# EAGLE library part MCP23017* (library IC_Interface)
16-Bit I/O Expander with Serial Interface Datasheet <https://ww1.microchip.com/downloads/en/devicedoc/20001952c.pdf>
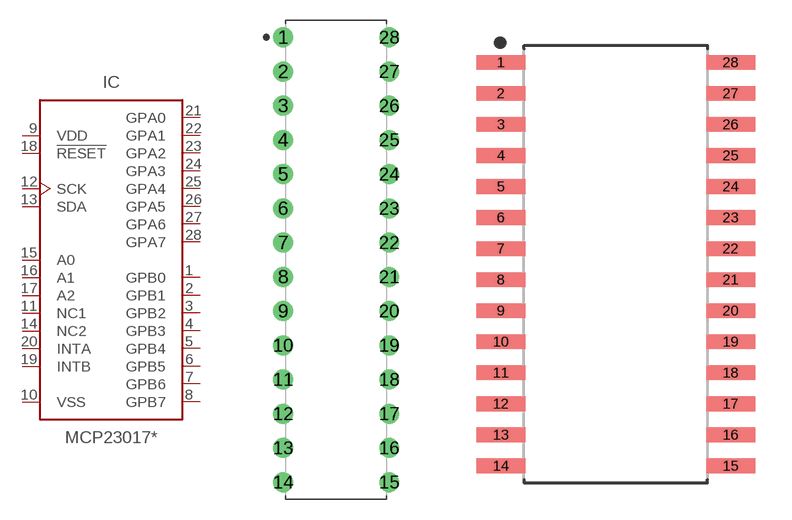
[diagram p17: symbol with the pads of DIP787W56P254L3486H508Q28B; footprints DIP787W56P254L3486H508Q28B, SOIC127P1030X265-28]

Designator prefix IC

## MCP23017-E/SP-SPDIP (CATEGORY: IC_Interface; DESCRIPTION: I/O Expander 16 I²C 1.7MHz; MANUFACTURER: Microchip Technology; MPN: MCP23017-E/SP; OPERATING_TEMP: -40°C to 125°C; PART_STATUS: Active; ROHS_COMPLIANT: ROHS3 Compliant; SUB-CATEGORY: I/O Expander; TYPE: 16 bit; VALUE: MCP23017)  [DIP787W56P254L3486H508Q28B]
1  GPB0
2  GPB1
3  GPB2
4  GPB3
5  GPB4
6  GPB5
7  GPB6
8  GPB7
9  VDD  pwr
10  VSS  pwr
11  NC1  nc
12  SCK  in
13  SDA
14  NC2  nc
15  A0  in
16  A1  in
17  A2  in
18  !RESET  in
19  INTB  out
20  INTA  out
21  GPA0
22  GPA1
23  GPA2
24  GPA3
25  GPA4
26  GPA5
27  GPA6
28  GPA7

## MCP23017-E/SO-SOIC (CATEGORY: IC_Interface; DESCRIPTION: I/O Expander 16 I²C 1.7MHz; MANUFACTURER: Microchip Technology; MPN: MCP23017-E/SO; OPERATING_TEMP: -40°C to 125°C; PART_STATUS: Active; ROHS_COMPLIANT: ROHS3 Compliant; SUB-CATEGORY: I/O Expander; TYPE: 16 bit; VALUE: MCP23017)  [SOIC127P1030X265-28]
Pads as for DIP787W56P254L3486H508Q28B

## Footprint DIP787W56P254L3486H508Q28B (pad centres in mm)
28-DIP, 2.54 mm (0.10 in) pitch, 7.87 mm (0.31 in) span, 34.86 X 6.80 X 5.08 mm body 28-pin DIP package with 2.54 mm (0.10 in) pitch, 7.87 mm (0.31 in) span with body size 34.86 X 6.80 X 5.08 mm
drill 0.877 pad 1.477: 1 -3.935,16.51; 2 -3.935,13.97; 3 -3.935,11.43; 4 -3.935,8.89; 5 -3.935,6.35; 6 -3.935,3.81; 7 -3.935,1.27; 8 -3.935,-1.27; 9 -3.935,-3.81; 10 -3.935,-6.35; 11 -3.935,-8.89; 12 -3.935,-11.43; 13 -3.935,-13.97; 14 -3.935,-16.51; 15 3.935,-16.51; 16 3.935,-13.97; 17 3.935,-11.43; 18 3.935,-8.89; 19 3.935,-6.35; 20 3.935,-3.81; 21 3.935,-1.27; 22 3.935,1.27; 23 3.935,3.81; 24 3.935,6.35; 25 3.935,8.89; 26 3.935,11.43; 27 3.935,13.97; 28 3.935,16.51

## Footprint SOIC127P1030X265-28 (pad centres in mm)
28-SOIC, 1.27 mm pitch, 10.30 mm span, 17.90 X 7.50 X 2.65 mm body 28-pin SOIC package with 1.27 mm pitch, 10.30 mm span with body size 17.90 X 7.50 X 2.65 mm
smd 2 x 0.6: 1 -4.7,8.255; 2 -4.7,6.985; 3 -4.7,5.715; 4 -4.7,4.445; 5 -4.7,3.175; 6 -4.7,1.905; 7 -4.7,0.635; 8 -4.7,-0.635; 9 -4.7,-1.905; 10 -4.7,-3.175; 11 -4.7,-4.445; 12 -4.7,-5.715; 13 -4.7,-6.985; 14 -4.7,-8.255; 15 4.7,-8.255; 16 4.7,-6.985; 17 4.7,-5.715; 18 4.7,-4.445; 19 4.7,-3.175; 20 4.7,-1.905; 21 4.7,-0.635; 22 4.7,0.635; 23 4.7,1.905; 24 4.7,3.175; 25 4.7,4.445; 26 4.7,5.715; 27 4.7,6.985; 28 4.7,8.255